# Altium integrated library SHARP BlueStreak.IntLib: 29 symbols (part 1 of 9)
Pins are listed as number, name and electrical type; pins without a type are passive.

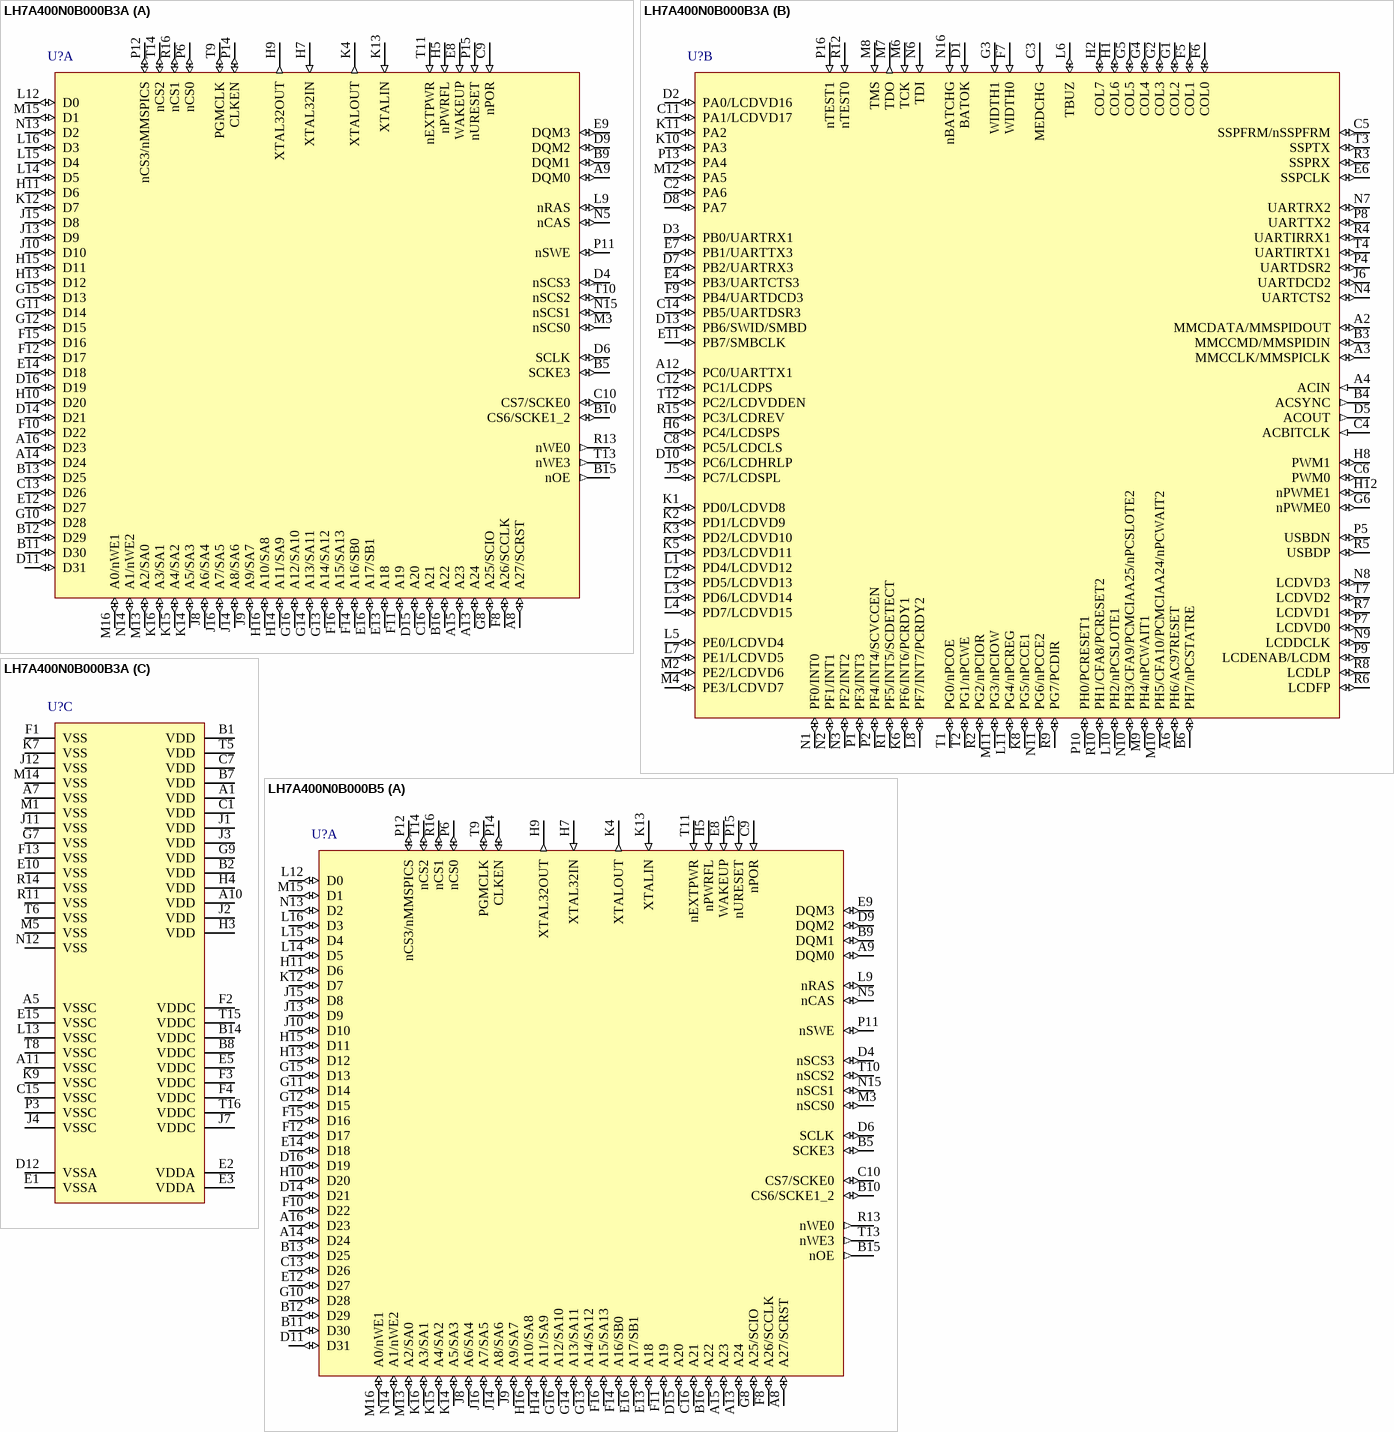
[diagram p0: symbols LH7A400N0B000B3A to LH7A400N0B000B5]

## LH7A400N0B000B3A
designator U?
32-bit ARM9TDMI-Based BlueStreak MMU with 16KB Cache, USB 2.0, JTAG, Color LCD controller, 80KB SRAM, 256-Ball PBGA; Published: 6-Oct-2005; LatestRevisionDate: 13-Apr-2006; LatestRevisionNote: IPC-7351 Footprint Added.; DatasheetVersion: ver1.2, Nov-2005; PackageVersion: Jan-2005; PackageReference: 256PBGA; Publisher: Altium Limited; PackageDescription: 256-Ball Plastic Ball Grid Array; ComponentLink1Description: Manufacturer Link; ComponentLink1URL: http://www.sharpsma.com/; ComponentLink2Description: Datasheet; ComponentLink2URL: http://document.sharpsma.com/files/LH7A400_DS_V1_2_111505.pdf
footprint 256PBGA (BGA, 256-Leads, Body 17x17mm, Pitch 1mm)
3D model LH7A400-PBGA256 (256-Ball Plastic Ball Grid Array)
part A pins: A8 A27/SCRST (io) "Asynchronous Address Bus/Smart Card Interface Reset", A9 DQM0 (io) "Data Mask for Synchronous Memories", A13 A24 (io) "Asynchronous Address Bus", A14 D24 (io) "Data Bus", A15 A23 (io) "Asynchronous Address Bus", A16 D23 (io) "Data Bus", B5 SCKE3 (io) "Clock Enable 3 for Synchronous Memory", B9 DQM1 (io) "Data Mask for Synchronous Memories", B10 CS6/SCKE1_2 (io) "Asynch Memory Chip Select/Synch Memory Clock Enable 1 or 2", B11 D30 (io) "Data Bus", B12 D29 (io) "Data Bus", B13 D25 (io) "Data Bus", B15 nOE (out) "Asynchronous Memory Output Enable", B16 A22 (io) "Asynchronous Address Bus", C9 nPOR (in) "Power on Reset", C10 CS7/SCKE0 (io) "Asynch Memory Chip Select/Synch Memory Clock Enable", C13 D26 (io) "Data Bus", C16 A21 (io) "Asynchronous Address Bus", D4 nSCS3 (io) "Synchronous Memory Chip Select", D6 SCLK (io) "Synchronous Memory Clock", D9 DQM2 (io) "Data Mask for Synchronous Memories", D11 D31 (io) "Data Bus", D14 D21 (io) "Data Bus", D15 A20 (io) "Asynchronous Address Bus", D16 D19 (io) "Data Bus", E8 WAKEUP (in) "Wake Up", E9 DQM3 (io) "Data Mask for Synchronous Memories", E12 D27 (io) "Data Bus", E13 A18 (io) "Asynchronous Address Bus", E14 D18 (io) "Data Bus", E16 A17/SB1 (io) "Asynchronous Address Bus/Synch Device Bank Address", F8 A26/SCCLK (io) "Asynchronous Address Bus/Smart Card Interface Clock", F10 D22 (io) "Data Bus", F11 A19 (io) "Asynchronous Address Bus", F12 D17 (io) "Data Bus", F14 A16/SB0 (io) "Asynchronous Address Bus/Synch Device Bank Address", F15 D16 (io) "Data Bus", F16 A15/SA13 (io) "Asynchronous Address Bus/Synchronous Address Bus", G8 A25/SCIO (io) "Asynchronous Address Bus/Smart Card Interface IO (Data)", G10 D28 (io) "Data Bus", G11 D14 (io) "Data Bus", G12 D15 (io) "Data Bus", G13 A14/SA12 (io) "Asynchronous Address Bus/Synchronous Address Bus", G14 A13/SA11 (io) "Asynchronous Address Bus/Synchronous Address Bus", G15 D13 (io) "Data Bus", G16 A12/SA10 (io) "Asynchronous Address Bus/Synchronous Address Bus", H5 nPWRFL (in) "Power Fail Signal", H7 XTAL32IN (in) "32.768 kHz Real Time Clock input", H9 XTAL32OUT (out) "32.768 kHz Real Time Clock output", H10 D20 (io) "Data Bus", H11 D6 (io) "Data Bus", H13 D12 (io) "Data Bus", H14 A11/SA9 (io) "Asynchronous Address Bus/Synchronous Address Bus", H15 D11 (io) "Data Bus", H16 A10/SA8 (io) "Asynchronous Address Bus/Synchronous Address Bus", J8 A6/SA4 (io) "Asynchronous Address Bus/Synchronous Address Bus", J9 A9/SA7 (io) "Asynchronous Address Bus/Synchronous Address Bus", J10 D10 (io) "Data Bus", J13 D9 (io) "Data Bus", J14 A8/SA6 (io) "Asynchronous Address Bus/Synchronous Address Bus", J15 D8 (io) "Data Bus", J16 A7/SA5 (io) "Asynchronous Address Bus/Synchronous Address Bus", K4 XTALOUT (out) "14.7456 MHz Crystal Oscillator output", K12 D7 (io) "Data Bus", K13 XTALIN (in) "14.7456 MHz Crystal Oscillator input", K14 A5/SA3 (io) "Asynchronous Address Bus/Synchronous Address Bus", K15 A4/SA2 (io) "Asynchronous Address Bus/Synchronous Address Bus", K16 A3/SA1 (io) "Asynchronous Address Bus/Synchronous Address Bus", L9 nRAS (io) "Synchronous Memory Row Address Strobe", L12 D0 (io) "Data Bus", L14 D5 (io) "Data Bus", L15 D4 (io) "Data Bus", L16 D3 (io) "Data Bus", M3 nSCS0 (io) "Synchronous Memory Chip Select", M13 A2/SA0 (io) "Asynchronous Address Bus/Synchronous Address Bus", M15 D1 (io) "Data Bus", M16 A0/nWE1 (io) "Asynchronous Address Bus/Asynch Memory Write Byte Enable", N5 nCAS (io) "Synchronous Memory Column Address Strobe", N13 D2 (io) "Data Bus", N14 A1/nWE2 (io) "Asynchronous Address Bus/Asynch Memory Write Byte Enable", N15 nSCS1 (io) "Synchronous Memory Chip Select", P6 nCS0 (io) "Asynchronous Memory Chip Select", P11 nSWE (io) "Synchronous Memory Write Enable", P12 nCS3/nMMSPICS (io) "Asynch Memory Chip Select/MultiMediaCard SPI Mode Chip Select", P14 CLKEN (io) "External Oscillator Enable Output", P15 nURESET (in) "User Reset", R13 nWE0 (out) "Asynch Memory Write Byte Enable", R16 nCS1 (io) "Asynchronous Memory Chip Select", T9 PGMCLK (io) "Programmable Clock (14.7456 MHz MAX.)", T10 nSCS2 (io) "Synchronous Memory Chip Select", T11 nEXTPWR (in) "External Power", T13 nWE3 (out) "Asynch Memory Write Byte Enable", T14 nCS2 (io) "Asynchronous Memory Chip Select"
part B pins: A2 MMCDATA/MMSPIDOUT (io) "MultiMediaCard Data/MultiMediaCard SPI Mode Data Output", A3 MMCCLK/MMSPICLK (io) "MultiMediaCard Clock (20 MHz MAX.)/MultiMediaCard SPI Mode Clock", A4 ACIN (in) "Audio Codec (AC97/ACI) Input", A6 PH6/AC97RESET (io) "GPIO - Port H/Audio Codec (AC97) Reset", A12 PC0/UARTTX1 (io) "GPIO - Port C/UART1 Transmit Data Input", B3 MMCCMD/MMSPIDIN (io) "MultiMediaCard Command/MultiMediaCard SPI Mode Data Input", B4 ACSYNC (out) "Audio Codec (AC97/ACI) Synchronization", B6 PH7/nPCSTATRE (io) "GPIO - Port H/Status Read Enable for PC Card (PCMCIA or CompactFlash)", C2 PA6 (io) "GPIO - Port A", C3 MEDCHG (in) "Media Change bit", C4 ACBITCLK (in) "Audio Codec (AC97/ACI) Clock", C5 SSPFRM/nSSPFRM (io) "Synchronous Serial Port Frame Sync", C6 PWM0 (io) "DC-DC Converter Output (Pulse Width Modulated)", C8 PC5/LCDCLS (io) "GPIO - Port C/HR-TFT Row Driver Clock", C11 PA1/LCDVD17 (io) "GPIO - Port ALCD Data pin", C12 PC1/LCDPS (io) "GPIO - Port C/HR-TFT Power Save", C14 PB5/UARTDSR3 (io) "GPIO - Port B/UART3 Data Set Ready", D1 BATOK (in) "Battery OK", D2 PA0/LCDVD16 (io) "GPIO - Port A/LCD Data pin", D3 PB0/UARTRX1 (io) "GPIO - Port B/UART1 Receive Data Input", D5 ACOUT (out) "Audio Codec (AC97/ACI) Output", D7 PB2/UARTRX3 (io) "GPIO - Port B/UART3 Receive Data Input", D8 PA7 (io) "GPIO - Port A", D10 PC6/LCDHRLP (io) "GPIO - Port C/LCD Latch Pulse", D13 PB6/SWID/SMBD (io) "GPIO - Port B/Single Wire Data/Smart Battery Data", E4 PB3/UARTCTS3 (io) "GPIO - Port B/UART3 Clear to Send", E6 SSPCLK (io) "Synchronous Serial Port Clock", E7 PB1/UARTTX3 (io) "GPIO - Port B/UART3 Transmit Data Input", E11 PB7/SMBCLK (io) "GPIO - Port B/Smart Battery Clock", F5 COL1 (io) "Keyboard Interface", F6 COL0 (io) "Keyboard Interface", F7 WIDTH0 (in) "Boot Width Pins", F9 PB4/UARTDCD3 (io) "GPIO - Port B/UART3 Data Carrier Detect", G1 COL2 (io) "Keyboard Interface", G2 COL3 (io) "Keyboard Interface", G3 WIDTH1 (in) "Boot Width Pins", G4 COL4 (io) "Keyboard Interface", G5 COL5 (io) "Keyboard Interface", G6 nPWME0 (io) "DC-DC Converter 0 PWM 0 Enable", H1 COL6 (io) "Keyboard Interface", H2 COL7 (io) "Keyboard Interface", H6 PC4/LCDSPS (io) "GPIO - Port C/HR-TFT Reset Row Driver Counter", H8 PWM1 (io) "DC-DC Converter Output (Pulse Width Modulated)", H12 nPWME1 (io) "DC-DC Converter 1 PWM 1 Enable", J5 PC7/LCDSPL (io) "GPIO - Port C/LCD Start Pulse Left", J6 UARTDCD2 (io) "UART2 Data Carrier Detect Signal", K1 PD0/LCDVD8 (io) "GPIO - Port D/LCD Data pin", K2 PD1/LCDVD9 (io) "GPIO - Port D/LCD Data pin", K3 PD2/LCDVD10 (io) "GPIO - Port D/LCD Data pin", K5 PD3/LCDVD11 (io) "GPIO - Port D/LCD Data pin", K6 PF6/INT6/PCRDY1 (io) "GPIO - Port F/Interrupt/Ready for Card 1 for PC Card (PCMCIA or CompactFlash)", K8 PG5/nPCCE1 (io) "GPIO - Port G/Card Enable 1 for PC Card (PCMCIA or CompactFlash)", K10 PA3 (io) "GPIO - Port A", K11 PA2 (io) "GPIO - Port A", L1 PD4/LCDVD12 (io) "GPIO - Port D/LCD Data pin", L2 PD5/LCDVD13 (io) "GPIO - Port D/LCD Data pin", L3 PD6/LCDVD14 (io) "GPIO - Port D/LCD Data pin", L4 PD7/LCDVD15 (io) "GPIO - Port D/LCD Data pin", L5 PE0/LCDVD4 (io) "GPIO - Port E/LCD Data pin", L6 TBUZ (io) "Timer Buzzer Output (254 kHz MAX.)", L7 PE1/LCDVD5 (io) "GPIO - Port E/LCD Data pin", L8 PF7/INT7/PCRDY2 (io) "GPIO - Port F/Interrupt/Ready for Card 2 for PC Card (PCMCIA or CompactFlash)", L10 PH2/nPCSLOTE1 (io) "GPIO - Port H/Enable Card 1 for PC Card (PCMCIA or CompactFlash)", L11 PG4/nPCREG (io) "GPIO - Port G/Register Memory Access for PC Card (PCMCIA or CompactFlash)", M2 PE2/LCDVD6 (io) "GPIO - Port E/LCD Data pin", M4 PE3/LCDVD7 (io) "GPIO - Port E/LCD Data pin", M6 TCK (in) "JTAG Clock", M7 TDO (out) "JTAG Data Out", M8 TMS (in) "JTAG Test Mode Select", M9 PH4/nPCWAIT1 (io) "GPIO - Port H//WAIT Signal for Card 1 for PC Card (PCMCIA or CompactFlash)", M10 PH5/CFA10/PCMCIAA24/nPCWAIT2 (io) "GPIO - Port H/Address Bit 10 for PC Card (CompactFlash) in Single Card mode/Address Bit 24 for PC Card (PCMCIA) in Single Card mode/WAIT Signal for Card 2 for PC Card (PCMCIA or CompactFlash) in Dual Card mode", M11 PG3/nPCIOW (io) "GPIO - Port G/IO Write Strobe for PC Card (PCMCIA or CompactFlash)", M12 PA5 (io) "GPIO - Port A", N1 PF0/INT0 (io) "GPIO - Port F/Interrupt", N2 PF1/INT1 (io) "GPIO - Port F/Interrupt", N3 PF2/INT2 (io) "GPIO - Port F/Interrupt", N4 UARTCTS2 (io) "UART2 Clear to Send Signal", N6 TDI (in) "JTAG Data In", N7 UARTRX2 (io) "UART2 Receive Data Input", N8 LCDVD3 (io) "LCD Video Data Interface", N9 LCDDCLK (io) "LCD Pixel Clock", N10 PH3/CFA9/PCMCIAA25/nPCSLOTE2 (io) "GPIO - Port H/Address Bit 9 for PC Card (CompactFlash) in Single Card mode/Address Bit 25 for PC Card (PCMCIA)/Enable Card 2 for PC Card (PCMCIA or CompactFlash)", N11 PG6/nPCCE2 (io) "GPIO - Port G/Card Enable 2 for PC Card (PCMCIA or CompactFlash)", N16 nBATCHG (in) "Battery Change", P1 PF3/INT3 (io) "GPIO - Port F/Interrupt", P2 PF4/INT4/SCVCCEN (io) "GPIO - Port F/External IRQ Interrupt/Smart Card Supply Voltage Enable", P4 UARTDSR2 (io) "UART2 Data Set Ready Signal", P5 USBDN (io) "USB Device Data Negative (Differential Pair)", P7 LCDVD0 (io) "LCD Video Data Interface", P8 UARTTX2 (io) "UART2 Transmit Data Output", P9 LCDENAB/LCDM (io) "LCD TFT Data Enable/LCD STN AC Bias", P10 PH0/PCRESET1 (io) "GPIO - Port H/Reset Card 1 for PC Card (PCMCIA or CompactFlash)", P13 PA4 (io) "GPIO - Port A", P16 nTEST1 (in) "Test Pin. Pull LOW for JTAG mode", R1 PF5/INT5/SCDETECT (io) "GPIO - Port F/Interrupt/Smart Card Interface Card Detect Signal", R2 PG2/nPCIOR (io) "GPIO - Port G/IO Read Strobe for PC Card (PCMCIA or CompactFlash)", R3 SSPRX (io) "Synchronous Serial Port Receive", R4 UARTIRRX1 (io) "IrDA Receive", R5 USBDP (io) "USB Device Data Positive (Differential Pair)", R6 LCDFP (io) "LCD Frame Synchronization pulse", R7 LCDVD1 (io) "LCD Video Data Interface", R8 LCDLP (io) "LCD Line Synchronization pulse", R9 PG7/PCDIR (io) "GPIO - Port G/Direction for PC Card (PCMCIA or CompactFlash)", R10 PH1/CFA8/PCRESET2 (io) "GPIO - Port H/Address Bit 8 for PC Card (CompactFlash)/Reset Card 2 for PC Card (PCMCIA or CompactFlash)", R12 nTEST0 (in) "Test Pin. Pull LOW for JTAG mode", R15 PC3/LCDREV (io) "GPIO - Port C/HR-TFT Gray Reverse", T1 PG0/nPCOE (io) "GPIO - Port G/Output Enable for PC Card (PCMCIA or CompactFlash)", T2 PG1/nPCWE (io) "GPIO - Port G/Write Enable for PC Card (PCMCIA or CompactFlash)", T3 SSPTX (io) "Synchronous Serial Port Transmit", T4 UARTIRTX1 (io) "IrDA Transmit", T7 LCDVD2 (io) "LCD Video Data Interface", T12 PC2/LCDVDDEN (io) "GPIO - Port C/HR-TFT Power Sequence Control"
part C pins: A1 VDD (power) "I/O Ring Power", A5 VSSC (power) "Core Ground", A7 VSS (power) "I/O Ring Ground", A10 VDD (power) "I/O Ring Power", A11 VSSC (power) "Core Ground", B1 VDD (power) "I/O Ring Power", B2 VDD (power) "I/O Ring Power", B7 VDD (power) "I/O Ring Power", B8 VDDC (power) "Core Power", B14 VDDC (power) "Core Power", C1 VDD (power) "I/O Ring Power", C7 VDD (power) "I/O Ring Power", C15 VSSC (power) "Core Ground", D12 VSSA (power) "Analog Ground for PLL1 and PLL2", E1 VSSA (power) "Analog Ground for PLL1 and PLL2", E2 VDDA (power) "Analog Power for PLL1 and PLL2", E3 VDDA (power) "Analog Power for PLL1 and PLL2", E5 VDDC (power) "Core Power", E10 VSS (power) "I/O Ring Ground", E15 VSSC (power) "Core Ground", F1 VSS (power) "I/O Ring Ground", F2 VDDC (power) "Core Power", F3 VDDC (power) "Core Power", F4 VDDC (power) "Core Power", F13 VSS (power) "I/O Ring Ground", G7 VSS (power) "I/O Ring Ground", G9 VDD (power) "I/O Ring Power", H3 VDD (power) "I/O Ring Power", H4 VDD (power) "I/O Ring Power", J1 VDD (power) "I/O Ring Power", J2 VDD (power) "I/O Ring Power", J3 VDD (power) "I/O Ring Power", J4 VSSC (power) "Core Ground", J7 VDDC (power) "Core Power", J11 VSS (power) "I/O Ring Ground", J12 VSS (power) "I/O Ring Ground", K7 VSS (power) "I/O Ring Ground", K9 VSSC (power) "Core Ground", L13 VSSC (power) "Core Ground", M1 VSS (power) "I/O Ring Ground", M5 VSS (power) "I/O Ring Ground", M14 VSS (power) "I/O Ring Ground", N12 VSS (power) "I/O Ring Ground", P3 VSSC (power) "Core Ground", R11 VSS (power) "I/O Ring Ground", R14 VSS (power) "I/O Ring Ground", T5 VDD (power) "I/O Ring Power", T6 VSS (power) "I/O Ring Ground", T8 VSSC (power) "Core Ground", T15 VDDC (power) "Core Power", T16 VDDC (power) "Core Power"

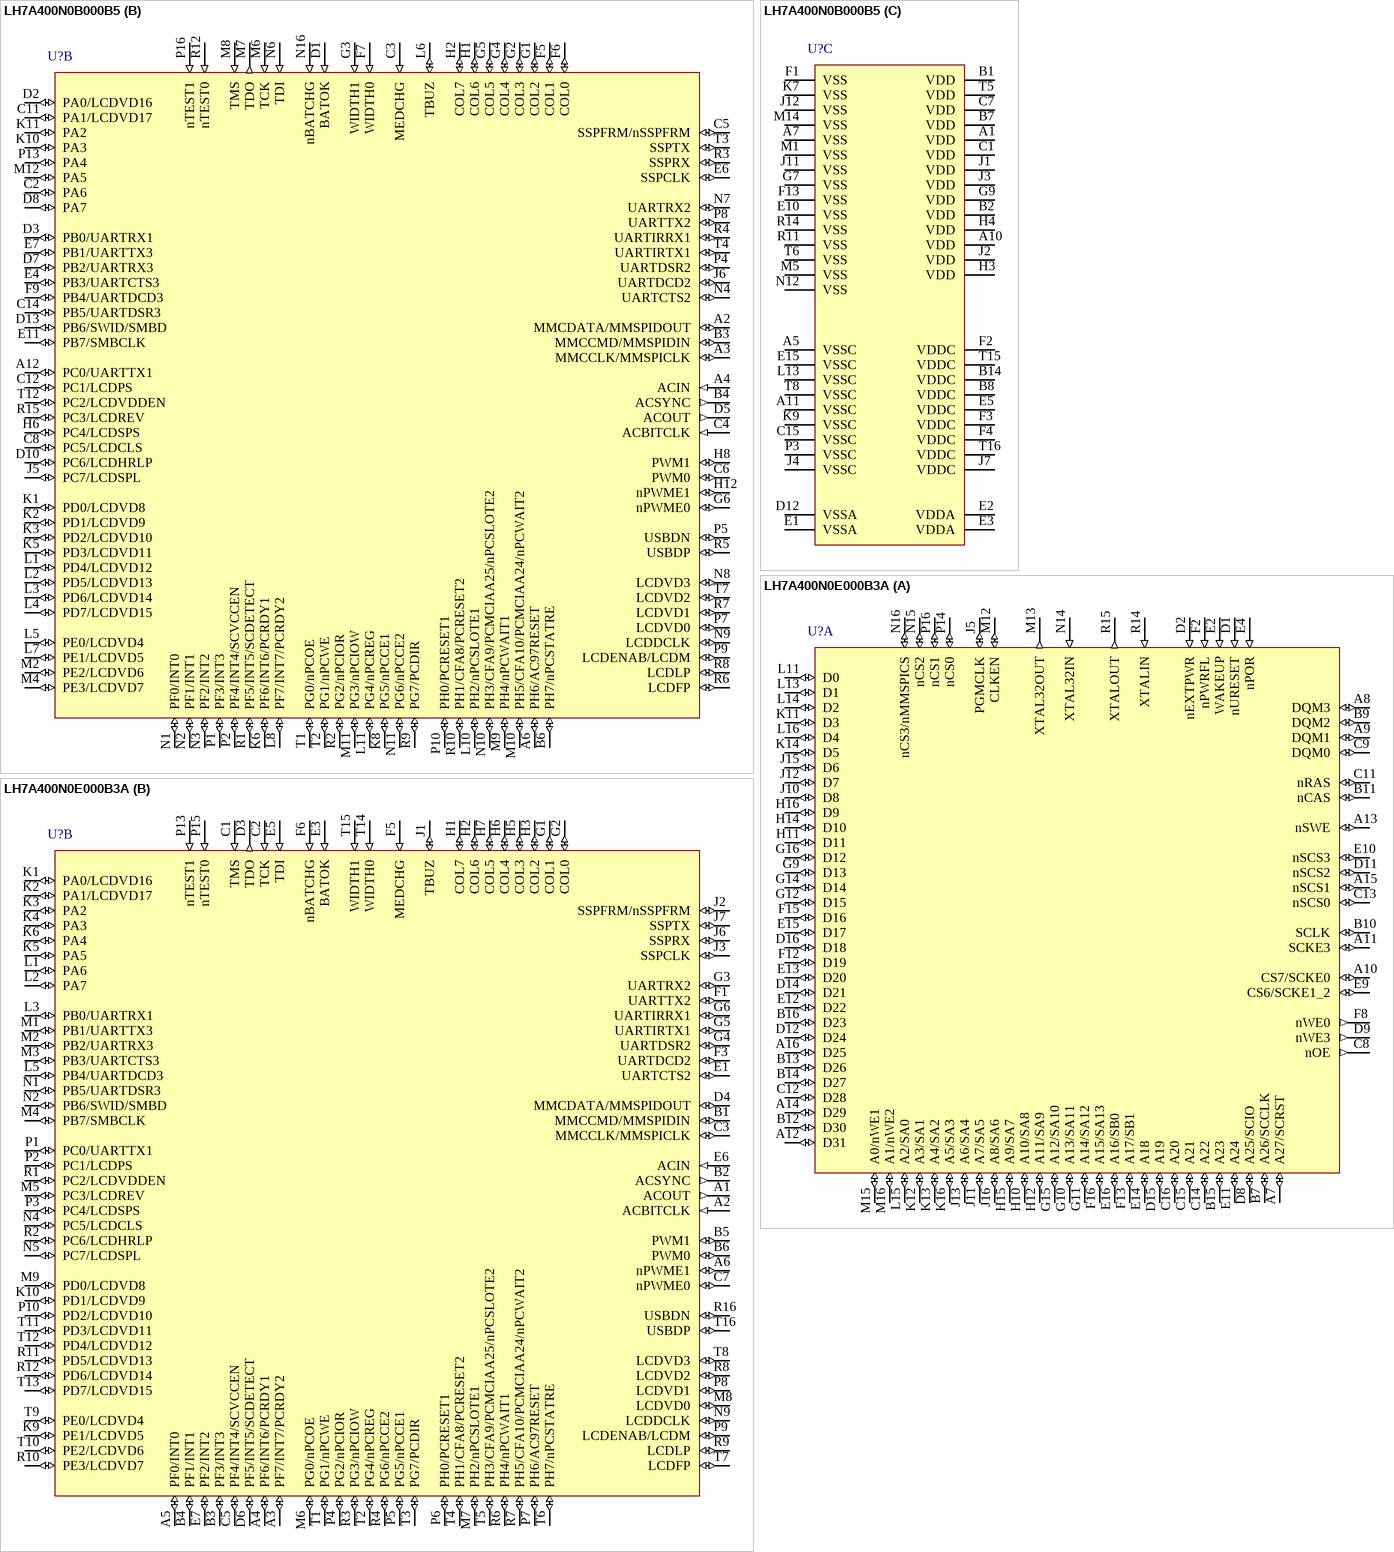
[diagram p1: symbols LH7A400N0B000B5 to LH7A400N0E000B3A]

## LH7A400N0B000B5
designator U?
32-bit ARM9TDMI-Based BlueStreak MMU with 16KB Cache, USB 2.0, JTAG, Color LCD controller, 80KB SRAM, 256-Ball PBGA; Published: 6-Oct-2005; LatestRevisionDate: 13-Apr-2006; LatestRevisionNote: IPC-7351 Footprint Added.; DatasheetVersion: ver1.2, Nov-2005; PackageVersion: Jan-2005; PackageReference: 256PBGA; Publisher: Altium Limited; PackageDescription: 256-Ball Plastic Ball Grid Array; ComponentLink1Description: Manufacturer Link; ComponentLink1URL: http://www.sharpsma.com/; ComponentLink2Description: Datasheet; ComponentLink2URL: http://document.sharpsma.com/files/LH7A400_DS_V1_2_111505.pdf
footprint 256PBGA (BGA, 256-Leads, Body 17x17mm, Pitch 1mm)
3D model LH7A400-PBGA256 (256-Ball Plastic Ball Grid Array)
part A pins: A8 A27/SCRST (io) "Asynchronous Address Bus/Smart Card Interface Reset", A9 DQM0 (io) "Data Mask for Synchronous Memories", A13 A24 (io) "Asynchronous Address Bus", A14 D24 (io) "Data Bus", A15 A23 (io) "Asynchronous Address Bus", A16 D23 (io) "Data Bus", B5 SCKE3 (io) "Clock Enable 3 for Synchronous Memory", B9 DQM1 (io) "Data Mask for Synchronous Memories", B10 CS6/SCKE1_2 (io) "Asynch Memory Chip Select/Synch Memory Clock Enable 1 or 2", B11 D30 (io) "Data Bus", B12 D29 (io) "Data Bus", B13 D25 (io) "Data Bus", B15 nOE (out) "Asynchronous Memory Output Enable", B16 A22 (io) "Asynchronous Address Bus", C9 nPOR (in) "Power on Reset", C10 CS7/SCKE0 (io) "Asynch Memory Chip Select/Synch Memory Clock Enable", C13 D26 (io) "Data Bus", C16 A21 (io) "Asynchronous Address Bus", D4 nSCS3 (io) "Synchronous Memory Chip Select", D6 SCLK (io) "Synchronous Memory Clock", D9 DQM2 (io) "Data Mask for Synchronous Memories", D11 D31 (io) "Data Bus", D14 D21 (io) "Data Bus", D15 A20 (io) "Asynchronous Address Bus", D16 D19 (io) "Data Bus", E8 WAKEUP (in) "Wake Up", E9 DQM3 (io) "Data Mask for Synchronous Memories", E12 D27 (io) "Data Bus", E13 A18 (io) "Asynchronous Address Bus", E14 D18 (io) "Data Bus", E16 A17/SB1 (io) "Asynchronous Address Bus/Synch Device Bank Address", F8 A26/SCCLK (io) "Asynchronous Address Bus/Smart Card Interface Clock", F10 D22 (io) "Data Bus", F11 A19 (io) "Asynchronous Address Bus", F12 D17 (io) "Data Bus", F14 A16/SB0 (io) "Asynchronous Address Bus/Synch Device Bank Address", F15 D16 (io) "Data Bus", F16 A15/SA13 (io) "Asynchronous Address Bus/Synchronous Address Bus", G8 A25/SCIO (io) "Asynchronous Address Bus/Smart Card Interface IO (Data)", G10 D28 (io) "Data Bus", G11 D14 (io) "Data Bus", G12 D15 (io) "Data Bus", G13 A14/SA12 (io) "Asynchronous Address Bus/Synchronous Address Bus", G14 A13/SA11 (io) "Asynchronous Address Bus/Synchronous Address Bus", G15 D13 (io) "Data Bus", G16 A12/SA10 (io) "Asynchronous Address Bus/Synchronous Address Bus", H5 nPWRFL (in) "Power Fail Signal", H7 XTAL32IN (in) "32.768 kHz Real Time Clock input", H9 XTAL32OUT (out) "32.768 kHz Real Time Clock output", H10 D20 (io) "Data Bus", H11 D6 (io) "Data Bus", H13 D12 (io) "Data Bus", H14 A11/SA9 (io) "Asynchronous Address Bus/Synchronous Address Bus", H15 D11 (io) "Data Bus", H16 A10/SA8 (io) "Asynchronous Address Bus/Synchronous Address Bus", J8 A6/SA4 (io) "Asynchronous Address Bus/Synchronous Address Bus", J9 A9/SA7 (io) "Asynchronous Address Bus/Synchronous Address Bus", J10 D10 (io) "Data Bus", J13 D9 (io) "Data Bus", J14 A8/SA6 (io) "Asynchronous Address Bus/Synchronous Address Bus", J15 D8 (io) "Data Bus", J16 A7/SA5 (io) "Asynchronous Address Bus/Synchronous Address Bus", K4 XTALOUT (out) "14.7456 MHz Crystal Oscillator output", K12 D7 (io) "Data Bus", K13 XTALIN (in) "14.7456 MHz Crystal Oscillator input", K14 A5/SA3 (io) "Asynchronous Address Bus/Synchronous Address Bus", K15 A4/SA2 (io) "Asynchronous Address Bus/Synchronous Address Bus", K16 A3/SA1 (io) "Asynchronous Address Bus/Synchronous Address Bus", L9 nRAS (io) "Synchronous Memory Row Address Strobe", L12 D0 (io) "Data Bus", L14 D5 (io) "Data Bus", L15 D4 (io) "Data Bus", L16 D3 (io) "Data Bus", M3 nSCS0 (io) "Synchronous Memory Chip Select", M13 A2/SA0 (io) "Asynchronous Address Bus/Synchronous Address Bus", M15 D1 (io) "Data Bus", M16 A0/nWE1 (io) "Asynchronous Address Bus/Asynch Memory Write Byte Enable", N5 nCAS (io) "Synchronous Memory Column Address Strobe", N13 D2 (io) "Data Bus", N14 A1/nWE2 (io) "Asynchronous Address Bus/Asynch Memory Write Byte Enable", N15 nSCS1 (io) "Synchronous Memory Chip Select", P6 nCS0 (io) "Asynchronous Memory Chip Select", P11 nSWE (io) "Synchronous Memory Write Enable", P12 nCS3/nMMSPICS (io) "Asynch Memory Chip Select/MultiMediaCard SPI Mode Chip Select", P14 CLKEN (io) "External Oscillator Enable Output", P15 nURESET (in) "User Reset", R13 nWE0 (out) "Asynch Memory Write Byte Enable", R16 nCS1 (io) "Asynchronous Memory Chip Select", T9 PGMCLK (io) "Programmable Clock (14.7456 MHz MAX.)", T10 nSCS2 (io) "Synchronous Memory Chip Select", T11 nEXTPWR (in) "External Power", T13 nWE3 (out) "Asynch Memory Write Byte Enable", T14 nCS2 (io) "Asynchronous Memory Chip Select"
part B pins: A2 MMCDATA/MMSPIDOUT (io) "MultiMediaCard Data/MultiMediaCard SPI Mode Data Output", A3 MMCCLK/MMSPICLK (io) "MultiMediaCard Clock (20 MHz MAX.)/MultiMediaCard SPI Mode Clock", A4 ACIN (in) "Audio Codec (AC97/ACI) Input", A6 PH6/AC97RESET (io) "GPIO - Port H/Audio Codec (AC97) Reset", A12 PC0/UARTTX1 (io) "GPIO - Port C/UART1 Transmit Data Input", B3 MMCCMD/MMSPIDIN (io) "MultiMediaCard Command/MultiMediaCard SPI Mode Data Input", B4 ACSYNC (out) "Audio Codec (AC97/ACI) Synchronization", B6 PH7/nPCSTATRE (io) "GPIO - Port H/Status Read Enable for PC Card (PCMCIA or CompactFlash)", C2 PA6 (io) "GPIO - Port A", C3 MEDCHG (in) "Media Change bit", C4 ACBITCLK (in) "Audio Codec (AC97/ACI) Clock", C5 SSPFRM/nSSPFRM (io) "Synchronous Serial Port Frame Sync", C6 PWM0 (io) "DC-DC Converter Output (Pulse Width Modulated)", C8 PC5/LCDCLS (io) "GPIO - Port C/HR-TFT Row Driver Clock", C11 PA1/LCDVD17 (io) "GPIO - Port ALCD Data pin", C12 PC1/LCDPS (io) "GPIO - Port C/HR-TFT Power Save", C14 PB5/UARTDSR3 (io) "GPIO - Port B/UART3 Data Set Ready", D1 BATOK (in) "Battery OK", D2 PA0/LCDVD16 (io) "GPIO - Port A/LCD Data pin", D3 PB0/UARTRX1 (io) "GPIO - Port B/UART1 Receive Data Input", D5 ACOUT (out) "Audio Codec (AC97/ACI) Output", D7 PB2/UARTRX3 (io) "GPIO - Port B/UART3 Receive Data Input", D8 PA7 (io) "GPIO - Port A", D10 PC6/LCDHRLP (io) "GPIO - Port C/LCD Latch Pulse", D13 PB6/SWID/SMBD (io) "GPIO - Port B/Single Wire Data/Smart Battery Data", E4 PB3/UARTCTS3 (io) "GPIO - Port B/UART3 Clear to Send", E6 SSPCLK (io) "Synchronous Serial Port Clock", E7 PB1/UARTTX3 (io) "GPIO - Port B/UART3 Transmit Data Input", E11 PB7/SMBCLK (io) "GPIO - Port B/Smart Battery Clock", F5 COL1 (io) "Keyboard Interface", F6 COL0 (io) "Keyboard Interface", F7 WIDTH0 (in) "Boot Width Pins", F9 PB4/UARTDCD3 (io) "GPIO - Port B/UART3 Data Carrier Detect", G1 COL2 (io) "Keyboard Interface", G2 COL3 (io) "Keyboard Interface", G3 WIDTH1 (in) "Boot Width Pins", G4 COL4 (io) "Keyboard Interface", G5 COL5 (io) "Keyboard Interface", G6 nPWME0 (io) "DC-DC Converter 0 PWM 0 Enable", H1 COL6 (io) "Keyboard Interface", H2 COL7 (io) "Keyboard Interface", H6 PC4/LCDSPS (io) "GPIO - Port C/HR-TFT Reset Row Driver Counter", H8 PWM1 (io) "DC-DC Converter Output (Pulse Width Modulated)", H12 nPWME1 (io) "DC-DC Converter 1 PWM 1 Enable", J5 PC7/LCDSPL (io) "GPIO - Port C/LCD Start Pulse Left", J6 UARTDCD2 (io) "UART2 Data Carrier Detect Signal", K1 PD0/LCDVD8 (io) "GPIO - Port D/LCD Data pin", K2 PD1/LCDVD9 (io) "GPIO - Port D/LCD Data pin", K3 PD2/LCDVD10 (io) "GPIO - Port D/LCD Data pin", K5 PD3/LCDVD11 (io) "GPIO - Port D/LCD Data pin", K6 PF6/INT6/PCRDY1 (io) "GPIO - Port F/Interrupt/Ready for Card 1 for PC Card (PCMCIA or CompactFlash)", K8 PG5/nPCCE1 (io) "GPIO - Port G/Card Enable 1 for PC Card (PCMCIA or CompactFlash)", K10 PA3 (io) "GPIO - Port A", K11 PA2 (io) "GPIO - Port A", L1 PD4/LCDVD12 (io) "GPIO - Port D/LCD Data pin", L2 PD5/LCDVD13 (io) "GPIO - Port D/LCD Data pin", L3 PD6/LCDVD14 (io) "GPIO - Port D/LCD Data pin", L4 PD7/LCDVD15 (io) "GPIO - Port D/LCD Data pin", L5 PE0/LCDVD4 (io) "GPIO - Port E/LCD Data pin", L6 TBUZ (io) "Timer Buzzer Output (254 kHz MAX.)", L7 PE1/LCDVD5 (io) "GPIO - Port E/LCD Data pin", L8 PF7/INT7/PCRDY2 (io) "GPIO - Port F/Interrupt/Ready for Card 2 for PC Card (PCMCIA or CompactFlash)", L10 PH2/nPCSLOTE1 (io) "GPIO - Port H/Enable Card 1 for PC Card (PCMCIA or CompactFlash)", L11 PG4/nPCREG (io) "GPIO - Port G/Register Memory Access for PC Card (PCMCIA or CompactFlash)", M2 PE2/LCDVD6 (io) "GPIO - Port E/LCD Data pin", M4 PE3/LCDVD7 (io) "GPIO - Port E/LCD Data pin", M6 TCK (in) "JTAG Clock", M7 TDO (out) "JTAG Data Out", M8 TMS (in) "JTAG Test Mode Select", M9 PH4/nPCWAIT1 (io) "GPIO - Port H//WAIT Signal for Card 1 for PC Card (PCMCIA or CompactFlash)", M10 PH5/CFA10/PCMCIAA24/nPCWAIT2 (io) "GPIO - Port H/Address Bit 10 for PC Card (CompactFlash) in Single Card mode/Address Bit 24 for PC Card (PCMCIA) in Single Card mode/WAIT Signal for Card 2 for PC Card (PCMCIA or CompactFlash) in Dual Card mode", M11 PG3/nPCIOW (io) "GPIO - Port G/IO Write Strobe for PC Card (PCMCIA or CompactFlash)", M12 PA5 (io) "GPIO - Port A", N1 PF0/INT0 (io) "GPIO - Port F/Interrupt", N2 PF1/INT1 (io) "GPIO - Port F/Interrupt", N3 PF2/INT2 (io) "GPIO - Port F/Interrupt", N4 UARTCTS2 (io) "UART2 Clear to Send Signal", N6 TDI (in) "JTAG Data In", N7 UARTRX2 (io) "UART2 Receive Data Input", N8 LCDVD3 (io) "LCD Video Data Interface", N9 LCDDCLK (io) "LCD Pixel Clock", N10 PH3/CFA9/PCMCIAA25/nPCSLOTE2 (io) "GPIO - Port H/Address Bit 9 for PC Card (CompactFlash) in Single Card mode/Address Bit 25 for PC Card (PCMCIA)/Enable Card 2 for PC Card (PCMCIA or CompactFlash)", N11 PG6/nPCCE2 (io) "GPIO - Port G/Card Enable 2 for PC Card (PCMCIA or CompactFlash)", N16 nBATCHG (in) "Battery Change", P1 PF3/INT3 (io) "GPIO - Port F/Interrupt", P2 PF4/INT4/SCVCCEN (io) "GPIO - Port F/External IRQ Interrupt/Smart Card Supply Voltage Enable", P4 UARTDSR2 (io) "UART2 Data Set Ready Signal", P5 USBDN (io) "USB Device Data Negative (Differential Pair)", P7 LCDVD0 (io) "LCD Video Data Interface", P8 UARTTX2 (io) "UART2 Transmit Data Output", P9 LCDENAB/LCDM (io) "LCD TFT Data Enable/LCD STN AC Bias", P10 PH0/PCRESET1 (io) "GPIO - Port H/Reset Card 1 for PC Card (PCMCIA or CompactFlash)", P13 PA4 (io) "GPIO - Port A", P16 nTEST1 (in) "Test Pin. Pull LOW for JTAG mode", R1 PF5/INT5/SCDETECT (io) "GPIO - Port F/Interrupt/Smart Card Interface Card Detect Signal", R2 PG2/nPCIOR (io) "GPIO - Port G/IO Read Strobe for PC Card (PCMCIA or CompactFlash)", R3 SSPRX (io) "Synchronous Serial Port Receive", R4 UARTIRRX1 (io) "IrDA Receive", R5 USBDP (io) "USB Device Data Positive (Differential Pair)", R6 LCDFP (io) "LCD Frame Synchronization pulse", R7 LCDVD1 (io) "LCD Video Data Interface", R8 LCDLP (io) "LCD Line Synchronization pulse", R9 PG7/PCDIR (io) "GPIO - Port G/Direction for PC Card (PCMCIA or CompactFlash)", R10 PH1/CFA8/PCRESET2 (io) "GPIO - Port H/Address Bit 8 for PC Card (CompactFlash)/Reset Card 2 for PC Card (PCMCIA or CompactFlash)", R12 nTEST0 (in) "Test Pin. Pull LOW for JTAG mode", R15 PC3/LCDREV (io) "GPIO - Port C/HR-TFT Gray Reverse", T1 PG0/nPCOE (io) "GPIO - Port G/Output Enable for PC Card (PCMCIA or CompactFlash)", T2 PG1/nPCWE (io) "GPIO - Port G/Write Enable for PC Card (PCMCIA or CompactFlash)", T3 SSPTX (io) "Synchronous Serial Port Transmit", T4 UARTIRTX1 (io) "IrDA Transmit", T7 LCDVD2 (io) "LCD Video Data Interface", T12 PC2/LCDVDDEN (io) "GPIO - Port C/HR-TFT Power Sequence Control"
part C pins: A1 VDD (power) "I/O Ring Power", A5 VSSC (power) "Core Ground", A7 VSS (power) "I/O Ring Ground", A10 VDD (power) "I/O Ring Power", A11 VSSC (power) "Core Ground", B1 VDD (power) "I/O Ring Power", B2 VDD (power) "I/O Ring Power", B7 VDD (power) "I/O Ring Power", B8 VDDC (power) "Core Power", B14 VDDC (power) "Core Power", C1 VDD (power) "I/O Ring Power", C7 VDD (power) "I/O Ring Power", C15 VSSC (power) "Core Ground", D12 VSSA (power) "Analog Ground for PLL1 and PLL2", E1 VSSA (power) "Analog Ground for PLL1 and PLL2", E2 VDDA (power) "Analog Power for PLL1 and PLL2", E3 VDDA (power) "Analog Power for PLL1 and PLL2", E5 VDDC (power) "Core Power", E10 VSS (power) "I/O Ring Ground", E15 VSSC (power) "Core Ground", F1 VSS (power) "I/O Ring Ground", F2 VDDC (power) "Core Power", F3 VDDC (power) "Core Power", F4 VDDC (power) "Core Power", F13 VSS (power) "I/O Ring Ground", G7 VSS (power) "I/O Ring Ground", G9 VDD (power) "I/O Ring Power", H3 VDD (power) "I/O Ring Power", H4 VDD (power) "I/O Ring Power", J1 VDD (power) "I/O Ring Power", J2 VDD (power) "I/O Ring Power", J3 VDD (power) "I/O Ring Power", J4 VSSC (power) "Core Ground", J7 VDDC (power) "Core Power", J11 VSS (power) "I/O Ring Ground", J12 VSS (power) "I/O Ring Ground", K7 VSS (power) "I/O Ring Ground", K9 VSSC (power) "Core Ground", L13 VSSC (power) "Core Ground", M1 VSS (power) "I/O Ring Ground", M5 VSS (power) "I/O Ring Ground", M14 VSS (power) "I/O Ring Ground", N12 VSS (power) "I/O Ring Ground", P3 VSSC (power) "Core Ground", R11 VSS (power) "I/O Ring Ground", R14 VSS (power) "I/O Ring Ground", T5 VDD (power) "I/O Ring Power", T6 VSS (power) "I/O Ring Ground", T8 VSSC (power) "Core Ground", T15 VDDC (power) "Core Power", T16 VDDC (power) "Core Power"

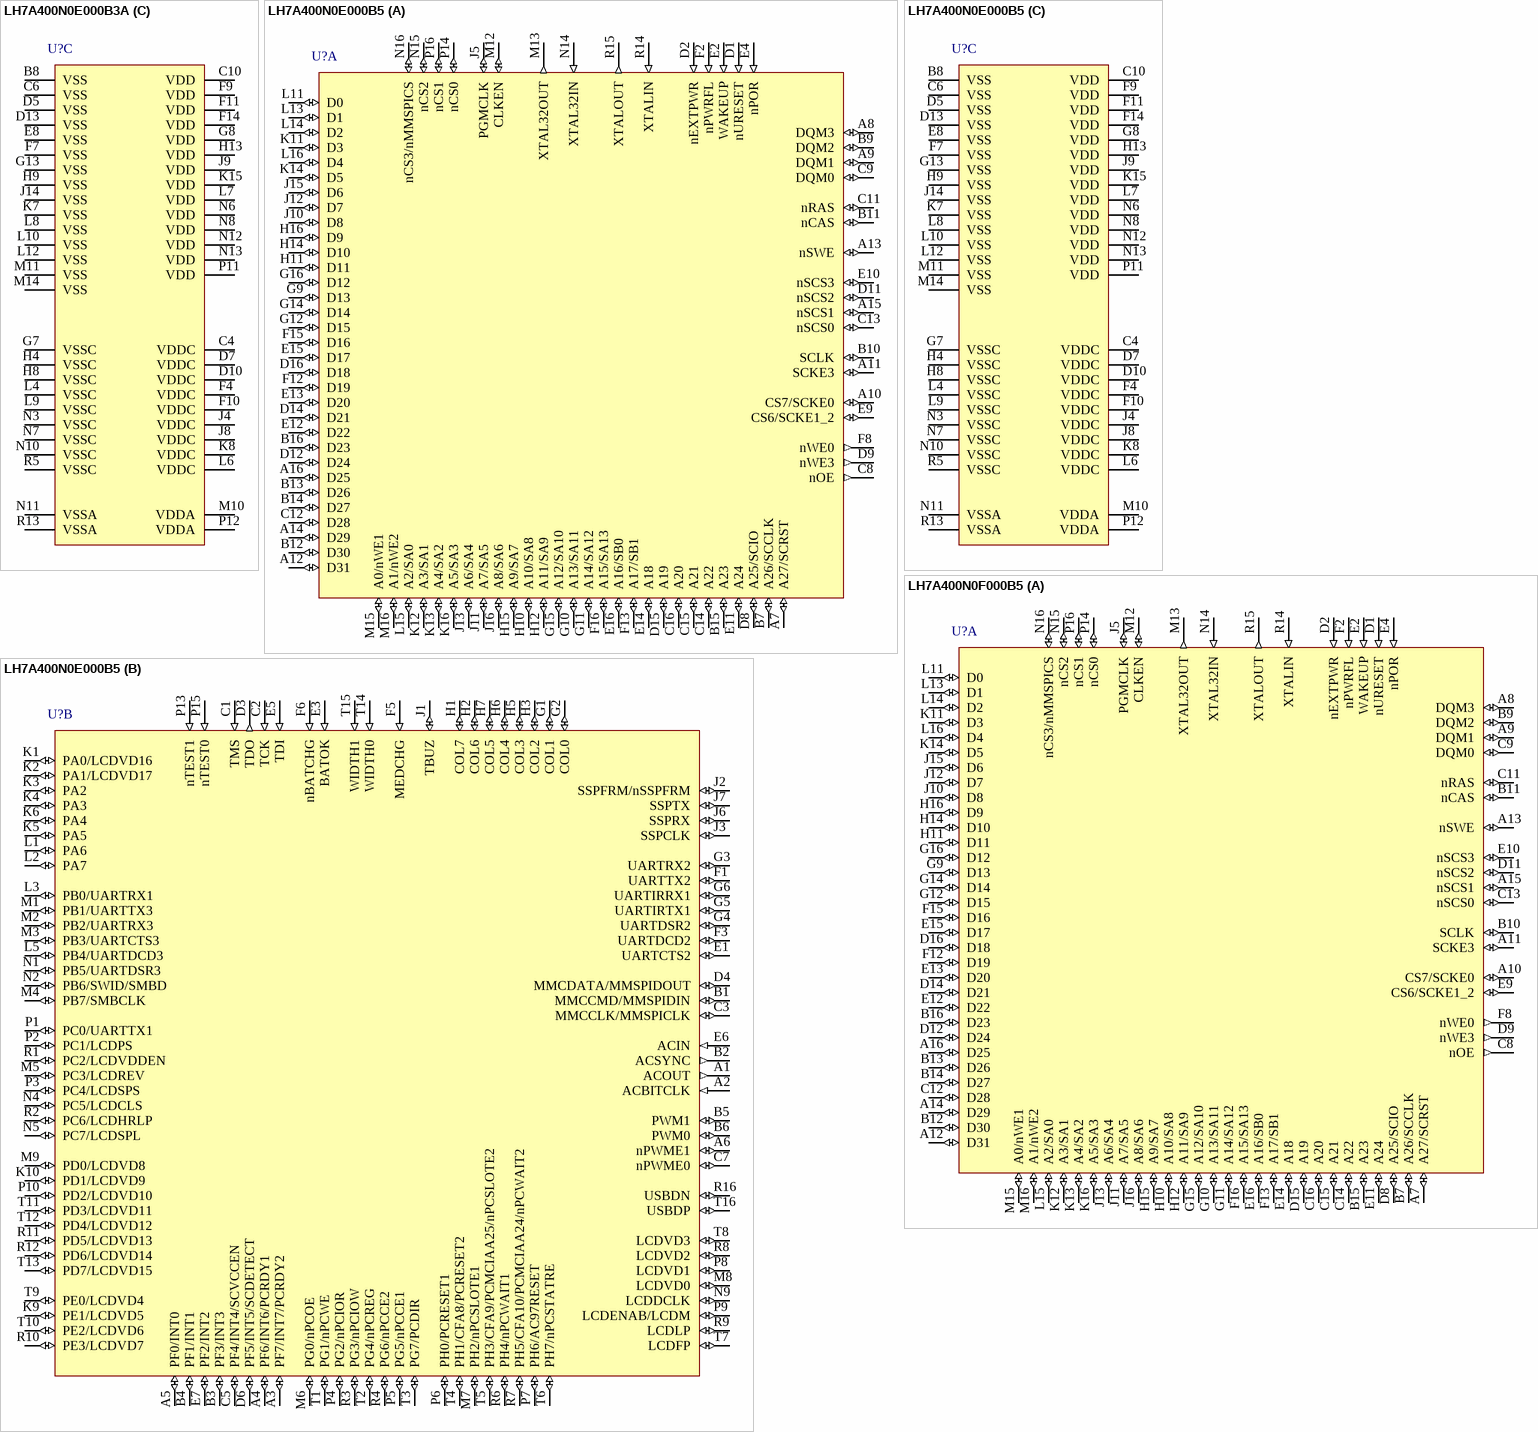
[diagram p2: symbols LH7A400N0E000B3A to LH7A400N0F000B5]

## LH7A400N0E000B3A
designator U?
32-bit ARM9TDMI-Based BlueStreak MMU with 16KB Cache, USB 2.0, JTAG, Color LCD controller, 80KB SRAM, 256-Ball CABGA; Published: 6-Oct-2005; LatestRevisionDate: 13-Apr-2006; LatestRevisionNote: IPC-7351 Footprint Added.; DatasheetVersion: ver1.2, Nov-2005; PackageVersion: Jan-2005; PackageReference: 256CABGA; Publisher: Altium Limited; PackageDescription: 256-Ball Chip Array Ball Grid Array; ComponentLink1Description: Manufacturer Link; ComponentLink1URL: http://www.sharpsma.com/; ComponentLink2Description: Datasheet; ComponentLink2URL: http://document.sharpsma.com/files/LH7A400_DS_V1_2_111505.pdf
footprint 256CABGA (BGA, 256-Leads, Body 14x14mm, Pitch 0.8mm)
3D model LH7A400-CABGA256 (256-Ball Chip Array Ball Grid Array)
part A pins: A7 A27/SCRST (io) "Asynchronous Address Bus/Smart Card Interface Reset", A8 DQM3 (io) "Data Mask for Synchronous Memories", A9 DQM1 (io) "Data Mask for Synchronous Memories", A10 CS7/SCKE0 (io) "Asynch Memory Chip Select/Synch Memory Clock Enable", A11 SCKE3 (io) "Clock Enable 3 for Synchronous Memory", A12 D31 (io) "Data Bus", A13 nSWE (io) "Synchronous Memory Write Enable", A14 D29 (io) "Data Bus", A15 nSCS1 (io) "Synchronous Memory Chip Select", A16 D25 (io) "Data Bus", B7 A26/SCCLK (io) "Asynchronous Address Bus/Smart Card Interface Clock", B9 DQM2 (io) "Data Mask for Synchronous Memories", B10 SCLK (io) "Synchronous Memory Clock", B11 nCAS (io) "Synchronous Memory Column Address Strobe", B12 D30 (io) "Data Bus", B13 D26 (io) "Data Bus", B14 D27 (io) "Data Bus", B15 A23 (io) "Asynchronous Address Bus", B16 D23 (io) "Data Bus", C8 nOE (out) "Asynchronous Memory Output Enable", C9 DQM0 (io) "Data Mask for Synchronous Memories", C11 nRAS (io) "Synchronous Memory Row Address Strobe", C12 D28 (io) "Data Bus", C13 nSCS0 (io) "Synchronous Memory Chip Select", C14 A22 (io) "Asynchronous Address Bus", C15 A21 (io) "Asynchronous Address Bus", C16 A20 (io) "Asynchronous Address Bus", D1 nURESET (in) "User Reset", D2 nEXTPWR (in) "External Power", D8 A25/SCIO (io) "Asynchronous Address Bus/Smart Card Interface IO (Data)", D9 nWE3 (out) "Asynch Memory Write Byte Enable", D11 nSCS2 (io) "Synchronous Memory Chip Select", D12 D24 (io) "Data Bus", D14 D21 (io) "Data Bus", D15 A19 (io) "Asynchronous Address Bus", D16 D18 (io) "Data Bus", E2 WAKEUP (in) "Wake Up", E4 nPOR (in) "Power on Reset", E9 CS6/SCKE1_2 (io) "Asynch Memory Chip Select/Synch Memory Clock Enable 1 or 2", E10 nSCS3 (io) "Synchronous Memory Chip Select", E11 A24 (io) "Asynchronous Address Bus", E12 D22 (io) "Data Bus", E13 D20 (io) "Data Bus", E14 A18 (io) "Asynchronous Address Bus", E15 D17 (io) "Data Bus", E16 A16/SB0 (io) "Asynchronous Address Bus/Synch Device Bank Address", F2 nPWRFL (in) "Power Fail Signal", F8 nWE0 (out) "Asynch Memory Write Byte Enable", F12 D19 (io) "Data Bus", F13 A17/SB1 (io) "Asynchronous Address Bus/Synch Device Bank Address", F15 D16 (io) "Data Bus", F16 A15/SA13 (io) "Asynchronous Address Bus/Synchronous Address Bus", G9 D13 (io) "Data Bus", G10 A13/SA11 (io) "Asynchronous Address Bus/Synchronous Address Bus", G11 A14/SA12 (io) "Asynchronous Address Bus/Synchronous Address Bus", G12 D15 (io) "Data Bus", G14 D14 (io) "Data Bus", G15 A12/SA10 (io) "Asynchronous Address Bus/Synchronous Address Bus", G16 D12 (io) "Data Bus", H10 A10/SA8 (io) "Asynchronous Address Bus/Synchronous Address Bus", H11 D11 (io) "Data Bus", H12 A11/SA9 (io) "Asynchronous Address Bus/Synchronous Address Bus", H14 D10 (io) "Data Bus", H15 A9/SA7 (io) "Asynchronous Address Bus/Synchronous Address Bus", H16 D9 (io) "Data Bus", J5 PGMCLK (io) "Programmable Clock (14.7456 MHz MAX.)", J10 D8 (io) "Data Bus", J11 A7/SA5 (io) "Asynchronous Address Bus/Synchronous Address Bus", J12 D7 (io) "Data Bus", J13 A6/SA4 (io) "Asynchronous Address Bus/Synchronous Address Bus", J15 D6 (io) "Data Bus", J16 A8/SA6 (io) "Asynchronous Address Bus/Synchronous Address Bus", K11 D3 (io) "Data Bus", K12 A3/SA1 (io) "Asynchronous Address Bus/Synchronous Address Bus", K13 A4/SA2 (io) "Asynchronous Address Bus/Synchronous Address Bus", K14 D5 (io) "Data Bus", K16 A5/SA3 (io) "Asynchronous Address Bus/Synchronous Address Bus", L11 D0 (io) "Data Bus", L13 D1 (io) "Data Bus", L14 D2 (io) "Data Bus", L15 A2/SA0 (io) "Asynchronous Address Bus/Synchronous Address Bus", L16 D4 (io) "Data Bus", M12 CLKEN (io) "External Oscillator Enable Output", M13 XTAL32OUT (out) "32.768 kHz Real Time Clock output", M15 A0/nWE1 (io) "Asynchronous Address Bus/Asynch Memory Write Byte Enable", M16 A1/nWE2 (io) "Asynchronous Address Bus/Asynch Memory Write Byte Enable", N14 XTAL32IN (in) "32.768 kHz Real Time Clock input", N15 nCS2 (io) "Asynchronous Memory Chip Select", N16 nCS3/nMMSPICS (io) "Asynch Memory Chip Select/MultiMediaCard SPI Mode Chip Select", P14 nCS0 (io) "Asynchronous Memory Chip Select", P16 nCS1 (io) "Asynchronous Memory Chip Select", R14 XTALIN (in) "14.7456 MHz Crystal Oscillator input", R15 XTALOUT (out) "14.7456 MHz Crystal Oscillator output"
part B pins: A1 ACOUT (out) "Audio Codec (AC97/ACI) Output", A2 ACBITCLK (in) "Audio Codec (AC97/ACI) Clock", A3 PF7/INT7/PCRDY2 (io) "GPIO - Port F/Interrupt/Ready for Card 2 for PC Card (PCMCIA or CompactFlash)", A4 PF6/INT6/PCRDY1 (io) "GPIO - Port F/Interrupt/Ready for Card 1 for PC Card (PCMCIA or CompactFlash)", A5 PF0/INT0 (io) "GPIO - Port F/Interrupt", A6 nPWME1 (io) "DC-DC Converter 1 PWM 1 Enable", B1 MMCCMD/MMSPIDIN (io) "MultiMediaCard Command/MultiMediaCard SPI Mode Data Input", B2 ACSYNC (out) "Audio Codec (AC97/ACI) Synchronization", B3 PF3/INT3 (io) "GPIO - Port F/Interrupt", B4 PF1/INT1 (io) "GPIO - Port F/Interrupt", B5 PWM1 (io) "DC-DC Converter Output (Pulse Width Modulated)", B6 PWM0 (io) "DC-DC Converter Output (Pulse Width Modulated)", C1 TMS (in) "JTAG Test Mode Select", C2 TCK (in) "JTAG Clock", C3 MMCCLK/MMSPICLK (io) "MultiMediaCard Clock (20 MHz MAX.)/MultiMediaCard SPI Mode Clock", C5 PF4/INT4/SCVCCEN (io) "GPIO - Port F/External IRQ Interrupt/Smart Card Supply Voltage Enable", C7 nPWME0 (io) "DC-DC Converter 0 PWM 0 Enable", D3 TDO (out) "JTAG Data Out", D4 MMCDATA/MMSPIDOUT (io) "MultiMediaCard Data/MultiMediaCard SPI Mode Data Output", D6 PF5/INT5/SCDETECT (io) "GPIO - Port F/Interrupt/Smart Card Interface Card Detect Signal", E1 UARTCTS2 (io) "UART2 Clear to Send Signal", E3 BATOK (in) "Battery OK", E5 TDI (in) "JTAG Data In", E6 ACIN (in) "Audio Codec (AC97/ACI) Input", E7 PF2/INT2 (io) "GPIO - Port F/Interrupt", F1 UARTTX2 (io) "UART2 Transmit Data Output", F3 UARTDCD2 (io) "UART2 Data Carrier Detect Signal", F5 MEDCHG (in) "Media Change bit", F6 nBATCHG (in) "Battery Change", G1 COL1 (io) "Keyboard Interface", G2 COL0 (io) "Keyboard Interface", G3 UARTRX2 (io) "UART2 Receive Data Input", G4 UARTDSR2 (io) "UART2 Data Set Ready Signal", G5 UARTIRTX1 (io) "IrDA Transmit", G6 UARTIRRX1 (io) "IrDA Receive", H1 COL7 (io) "Keyboard Interface", H2 COL6 (io) "Keyboard Interface", H3 COL2 (io) "Keyboard Interface", H5 COL3 (io) "Keyboard Interface", H6 COL4 (io) "Keyboard Interface", H7 COL5 (io) "Keyboard Interface", J1 TBUZ (io) "Timer Buzzer Output (254 kHz MAX.)", J2 SSPFRM/nSSPFRM (io) "Synchronous Serial Port Frame Sync", J3 SSPCLK (io) "Synchronous Serial Port Clock", J6 SSPRX (io) "Synchronous Serial Port Receive", J7 SSPTX (io) "Synchronous Serial Port Transmit", K1 PA0/LCDVD16 (io) "GPIO - Port A/LCD Data pin", K2 PA1/LCDVD17 (io) "GPIO - Port ALCD Data pin", K3 PA2 (io) "GPIO - Port A", K4 PA3 (io) "GPIO - Port A", K5 PA5 (io) "GPIO - Port A", K6 PA4 (io) "GPIO - Port A", K9 PE1/LCDVD5 (io) "GPIO - Port E/LCD Data pin", K10 PD1/LCDVD9 (io) "GPIO - Port D/LCD Data pin", L1 PA6 (io) "GPIO - Port A", L2 PA7 (io) "GPIO - Port A", L3 PB0/UARTRX1 (io) "GPIO - Port B/UART1 Receive Data Input", L5 PB4/UARTDCD3 (io) "GPIO - Port B/UART3 Data Carrier Detect", M1 PB1/UARTTX3 (io) "GPIO - Port B/UART3 Transmit Data Input", M2 PB2/UARTRX3 (io) "GPIO - Port B/UART3 Receive Data Input", M3 PB3/UARTCTS3 (io) "GPIO - Port B/UART3 Clear to Send", M4 PB7/SMBCLK (io) "GPIO - Port B/Smart Battery Clock", M5 PC3/LCDREV (io) "GPIO - Port C/HR-TFT Gray Reverse", M6 PG0/nPCOE (io) "GPIO - Port G/Output Enable for PC Card (PCMCIA or CompactFlash)", M7 PH2/nPCSLOTE1 (io) "GPIO - Port H/Enable Card 1 for PC Card (PCMCIA or CompactFlash)", M8 LCDVD0 (io) "LCD Video Data Interface", M9 PD0/LCDVD8 (io) "GPIO - Port D/LCD Data pin", N1 PB5/UARTDSR3 (io) "GPIO - Port B/UART3 Data Set Ready", N2 PB6/SWID/SMBD (io) "GPIO - Port B/Single Wire Data/Smart Battery Data", N4 PC5/LCDCLS (io) "GPIO - Port C/HR-TFT Row Driver Clock", N5 PC7/LCDSPL (io) "GPIO - Port C/LCD Start Pulse Left", N9 LCDDCLK (io) "LCD Pixel Clock", P1 PC0/UARTTX1 (io) "GPIO - Port C/UART1 Transmit Data Input", P2 PC1/LCDPS (io) "GPIO - Port C/HR-TFT Power Save", P3 PC4/LCDSPS (io) "GPIO - Port C/HR-TFT Reset Row Driver Counter", P4 PG2/nPCIOR (io) "GPIO - Port G/IO Read Strobe for PC Card (PCMCIA or CompactFlash)", P5 PG5/nPCCE1 (io) "GPIO - Port G/Card Enable 1 for PC Card (PCMCIA or CompactFlash)", P6 PH0/PCRESET1 (io) "GPIO - Port H/Reset Card 1 for PC Card (PCMCIA or CompactFlash)", P7 PH6/AC97RESET (io) "GPIO - Port H/Audio Codec (AC97) Reset", P8 LCDVD1 (io) "LCD Video Data Interface", P9 LCDENAB/LCDM (io) "LCD TFT Data Enable/LCD STN AC Bias", P10 PD2/LCDVD10 (io) "GPIO - Port D/LCD Data pin", P13 nTEST1 (in) "Test Pin. Pull LOW for JTAG mode", P15 nTEST0 (in) "Test Pin. Pull LOW for JTAG mode", R1 PC2/LCDVDDEN (io) "GPIO - Port C/HR-TFT Power Sequence Control", R2 PC6/LCDHRLP (io) "GPIO - Port C/LCD Latch Pulse", R3 PG3/nPCIOW (io) "GPIO - Port G/IO Write Strobe for PC Card (PCMCIA or CompactFlash)", R4 PG6/nPCCE2 (io) "GPIO - Port G/Card Enable 2 for PC Card (PCMCIA or CompactFlash)", R6 PH4/nPCWAIT1 (io) "GPIO - Port H//WAIT Signal for Card 1 for PC Card (PCMCIA or CompactFlash)", R7 PH5/CFA10/PCMCIAA24/nPCWAIT2 (io) "GPIO - Port H/Address Bit 10 for PC Card (CompactFlash) in Single Card mode/Address Bit 24 for PC Card (PCMCIA) in Single Card mode/WAIT Signal for Card 2 for PC Card (PCMCIA or CompactFlash) in Dual Card mode", R8 LCDVD2 (io) "LCD Video Data Interface", R9 LCDLP (io) "LCD Line Synchronization pulse", R10 PE3/LCDVD7 (io) "GPIO - Port E/LCD Data pin", R11 PD5/LCDVD13 (io) "GPIO - Port D/LCD Data pin", R12 PD6/LCDVD14 (io) "GPIO - Port D/LCD Data pin", R16 USBDN (io) "USB Device Data Negative (Differential Pair)", T1 PG1/nPCWE (io) "GPIO - Port G/Write Enable for PC Card (PCMCIA or CompactFlash)", T2 PG4/nPCREG (io) "GPIO - Port G/Register Memory Access for PC Card (PCMCIA or CompactFlash)", T3 PG7/PCDIR (io) "GPIO - Port G/Direction for PC Card (PCMCIA or CompactFlash)", T4 PH1/CFA8/PCRESET2 (io) "GPIO - Port H/Address Bit 8 for PC Card (CompactFlash)/Reset Card 2 for PC Card (PCMCIA or CompactFlash)", T5 PH3/CFA9/PCMCIAA25/nPCSLOTE2 (io) "GPIO - Port H/Address Bit 9 for PC Card (CompactFlash) in Single Card mode/Address Bit 25 for PC Card (PCMCIA)/Enable Card 2 for PC Card (PCMCIA or CompactFlash)", T6 PH7/nPCSTATRE (io) "GPIO - Port H/Status Read Enable for PC Card (PCMCIA or CompactFlash)", T7 LCDFP (io) "LCD Frame Synchronization pulse", T8 LCDVD3 (io) "LCD Video Data Interface", T9 PE0/LCDVD4 (io) "GPIO - Port E/LCD Data pin", T10 PE2/LCDVD6 (io) "GPIO - Port E/LCD Data pin", T11 PD3/LCDVD11 (io) "GPIO - Port D/LCD Data pin", T12 PD4/LCDVD12 (io) "GPIO - Port D/LCD Data pin", T13 PD7/LCDVD15 (io) "GPIO - Port D/LCD Data pin", T14 WIDTH0 (in) "Boot Width Pins", T15 WIDTH1 (in) "Boot Width Pins", T16 USBDP (io) "USB Device Data Positive (Differential Pair)"
part C pins: B8 VSS (power) "I/O Ring Ground", C4 VDDC (power) "Core Power", C6 VSS (power) "I/O Ring Ground", C10 VDD (power) "I/O Ring Power", D5 VSS (power) "I/O Ring Ground", D7 VDDC (power) "Core Power", D10 VDDC (power) "Core Power", D13 VSS (power) "I/O Ring Ground", E8 VSS (power) "I/O Ring Ground", F4 VDDC (power) "Core Power", F7 VSS (power) "I/O Ring Ground", F9 VDD (power) "I/O Ring Power", F10 VDDC (power) "Core Power", F11 VDD (power) "I/O Ring Power", F14 VDD (power) "I/O Ring Power", G7 VSSC (power) "Core Ground", G8 VDD (power) "I/O Ring Power", G13 VSS (power) "I/O Ring Ground", H4 VSSC (power) "Core Ground", H8 VSSC (power) "Core Ground", H9 VSS (power) "I/O Ring Ground", H13 VDD (power) "I/O Ring Power", J4 VDDC (power) "Core Power", J8 VDDC (power) "Core Power", J9 VDD (power) "I/O Ring Power", J14 VSS (power) "I/O Ring Ground", K7 VSS (power) "I/O Ring Ground", K8 VDDC (power) "Core Power", K15 VDD (power) "I/O Ring Power", L4 VSSC (power) "Core Ground", L6 VDDC (power) "Core Power", L7 VDD (power) "I/O Ring Power", L8 VSS (power) "I/O Ring Ground", L9 VSSC (power) "Core Ground", L10 VSS (power) "I/O Ring Ground", L12 VSS (power) "I/O Ring Ground", M10 VDDA (power) "Analog Power for PLL1 and PLL2", M11 VSS (power) "I/O Ring Ground", M14 VSS (power) "I/O Ring Ground", N3 VSSC (power) "Core Ground", N6 VDD (power) "I/O Ring Power", N7 VSSC (power) "Core Ground", N8 VDD (power) "I/O Ring Power", N10 VSSC (power) "Core Ground", N11 VSSA (power) "Analog Ground for PLL1 and PLL2", N12 VDD (power) "I/O Ring Power", N13 VDD (power) "I/O Ring Power", P11 VDD (power) "I/O Ring Power", P12 VDDA (power) "Analog Power for PLL1 and PLL2", R5 VSSC (power) "Core Ground", R13 VSSA (power) "Analog Ground for PLL1 and PLL2"